# Altium schematic symbol library SWD_Cat_Programmer.SchLib: 9 symbols
Pins are listed as number, name and electrical type; pins without a type are passive.

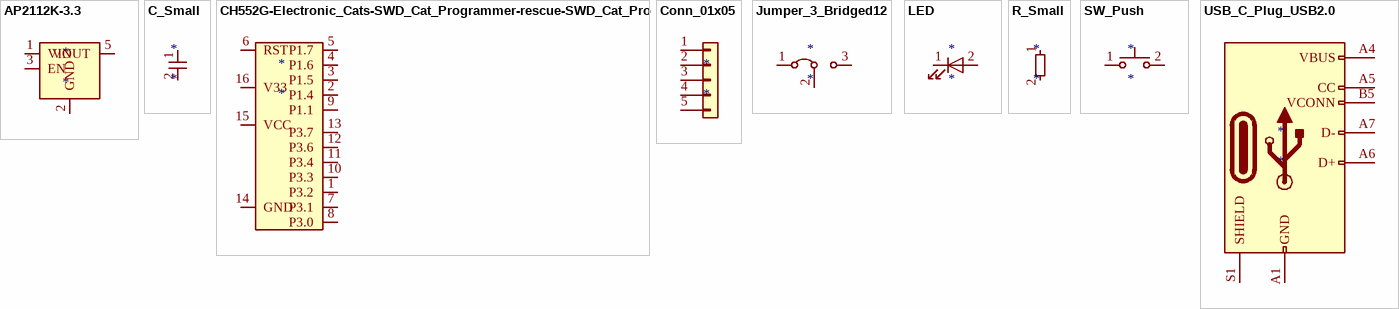
[diagram p0: symbols AP2112K-3.3 to USB_C_Plug_USB2.0]

## AP2112K-3.3
designator *
pins: 1 VIN, 2 GND, 3 EN, 4 NC hidden, 5 VOUT

## C_Small
designator *
pins: 1, 2

## CH552G-Electronic_Cats-SWD_Cat_Programmer-rescue-SWD_Cat_Programmer-rescue-SWD_Cat_Programmer-rescue
designator *
pins: 1 P3.2, 2 P1.4, 3 P1.5, 4 P1.6, 5 P1.7, 6 RST, 7 P3.1, 8 P3.0, 9 P1.1, 10 P3.3, 11 P3.4, 12 P3.6, 13 P3.7, 14 GND, 15 VCC, 16 V33

## Conn_01x05
designator *
pins: 1 Pin_1, 2 Pin_2, 3 Pin_3, 4 Pin_4, 5 Pin_5

## Jumper_3_Bridged12
designator *
pins: 1 A, 2 C, 3 B

## LED
designator *
pins: 1 K, 2 A

## R_Small
designator *
pins: 1, 2

## SW_Push
designator *
pins: 1, 2

## USB_C_Plug_USB2.0
designator *
pins: A1 GND, A4 VBUS, A5 CC, A6 D+, A7 D-, A9 VBUS hidden, A12 GND hidden, B1 GND hidden, B4 VBUS hidden, B5 VCONN, B9 VBUS hidden, B12 GND hidden, S1 SHIELD